# EAGLE library part XC2C{64,128,256}A-VQ100 (library kmod-xilinx)
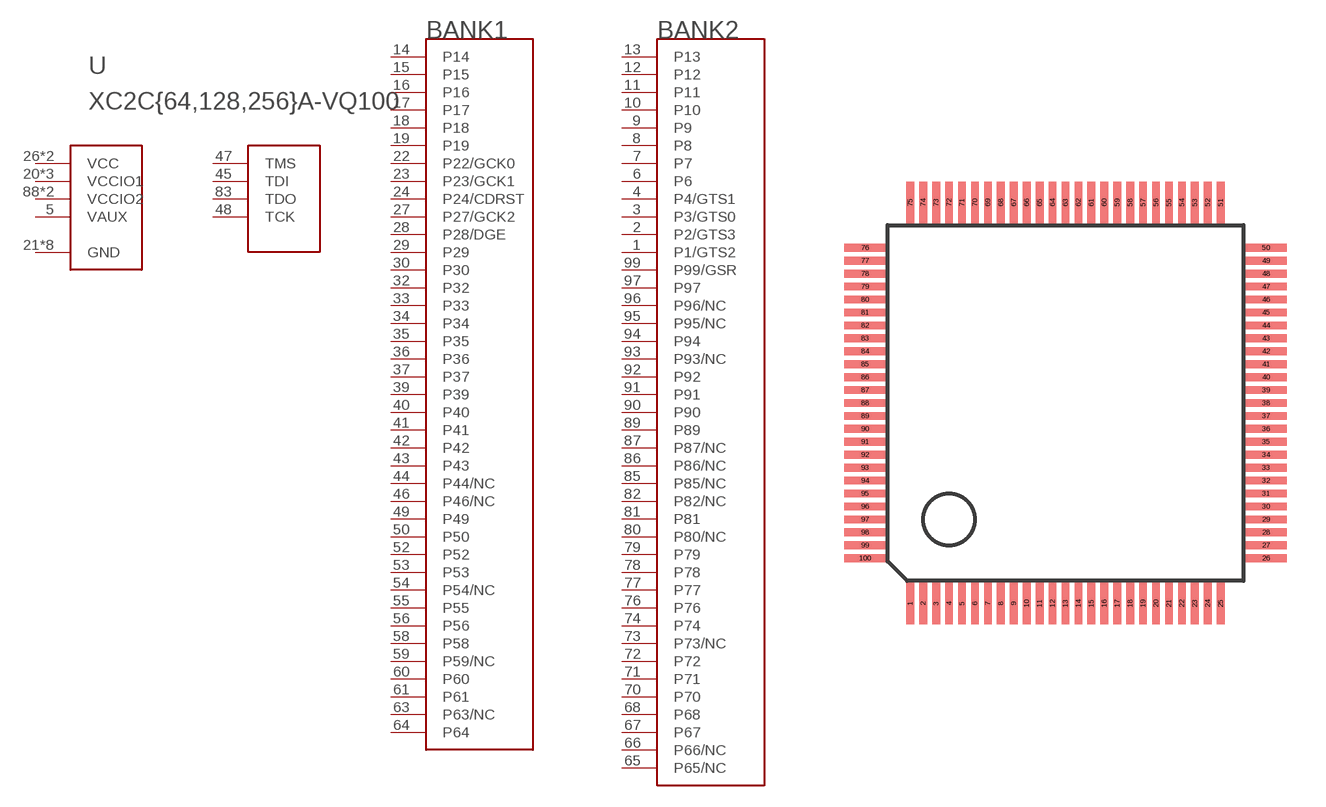
[diagram p3: symbol with the pads of XILINX_VQ100; footprint XILINX_VQ100]

Designator prefix -

## XC2C{64,128,256}A-VQ100  [XILINX_VQ100]
1  P1/GTS2
2  P2/GTS3
3  P3/GTS0
4  P4/GTS1
5  VAUX
6  P6
7  P7
8  P8
9  P9
10  P10
11  P11
12  P12
13  P13
14  P14
15  P15
16  P16
17  P17
18  P18
19  P19
20  VCCIO1
21  GND
22  P22/GCK0
23  P23/GCK1
24  P24/CDRST
25  GND
26  VCC
27  P27/GCK2
28  P28/DGE
29  P29
30  P30
31  GND
32  P32
33  P33
34  P34
35  P35
36  P36
37  P37
38  VCCIO1
39  P39
40  P40
41  P41
42  P42
43  P43
44  P44/NC
45  TDI
46  P46/NC
47  TMS
48  TCK
49  P49
50  P50
51  VCCIO1
52  P52
53  P53
54  P54/NC
55  P55
56  P56
57  VCC
58  P58
59  P59/NC
60  P60
61  P61
62  GND
63  P63/NC
64  P64
65  P65/NC
66  P66/NC
67  P67
68  P68
69  GND
70  P70
71  P71
72  P72
73  P73/NC
74  P74
75  GND
76  P76
77  P77
78  P78
79  P79
80  P80/NC
81  P81
82  P82/NC
83  TDO
84  GND
85  P85/NC
86  P86/NC
87  P87/NC
88  VCCIO2
89  P89
90  P90
91  P91
92  P92
93  P93/NC
94  P94
95  P95/NC
96  P96/NC
97  P97
98  VCCIO2
99  P99/GSR
100  GND

## Footprint XILINX_VQ100 (pad centres in mm)
Xilinx 0.5mm-pitch 100-pin Very Thin QFP Got base footprint from ref-packages; modified according to the Xilinx guide <http://www.xilinx.com/support/documentation/user_guides/ug112.pdf#page=85> (only change was to make pads ever so slightly larger). Untested Seems to be the same thing as the TQ100, except that the TQ is slightly thicker (1.6mm vs 1.2mm).
smd 0.3 x 1.6: 1 -6,-7.75; 2 -5.5,-7.75; 3 -5,-7.75; 4 -4.5,-7.75; 5 -4,-7.75; 6 -3.5,-7.75; 7 -3,-7.75; 8 -2.5,-7.75; 9 -2,-7.75; 10 -1.5,-7.75; 11 -1,-7.75; 12 -0.5,-7.75; 13 0,-7.75; 14 0.5,-7.75; 15 1,-7.75; 16 1.5,-7.75; 17 2,-7.75; 18 2.5,-7.75; 19 3,-7.75; 20 3.5,-7.75; 21 4,-7.75; 22 4.5,-7.75; 23 5,-7.75; 24 5.5,-7.75; 25 6,-7.75; 51 6,7.75; 52 5.5,7.75; 53 5,7.75; 54 4.5,7.75; 55 4,7.75; 56 3.5,7.75; 57 3,7.75; 58 2.5,7.75; 59 2,7.75; 60 1.5,7.75; 61 1,7.75; 62 0.5,7.75; 63 0,7.75; 64 -0.5,7.75; 65 -1,7.75; 66 -1.5,7.75; 67 -2,7.75; 68 -2.5,7.75; 69 -3,7.75; 70 -3.5,7.75; 71 -4,7.75; 72 -4.5,7.75; 73 -5,7.75; 74 -5.5,7.75; 75 -6,7.75
smd 1.6 x 0.3: 26 7.75,-6; 27 7.75,-5.5; 28 7.75,-5; 29 7.75,-4.5; 30 7.75,-4; 31 7.75,-3.5; 32 7.75,-3; 33 7.75,-2.5; 34 7.75,-2; 35 7.75,-1.5; 36 7.75,-1; 37 7.75,-0.5; 38 7.75,0; 39 7.75,0.5; 40 7.75,1; 41 7.75,1.5; 42 7.75,2; 43 7.75,2.5; 44 7.75,3; 45 7.75,3.5; 46 7.75,4; 47 7.75,4.5; 48 7.75,5; 49 7.75,5.5; 50 7.75,6; 76 -7.75,6; 77 -7.75,5.5; 78 -7.75,5; 79 -7.75,4.5; 80 -7.75,4; 81 -7.75,3.5; 82 -7.75,3; 83 -7.75,2.5; 84 -7.75,2; 85 -7.75,1.5; 86 -7.75,1; 87 -7.75,0.5; 88 -7.75,0; 89 -7.75,-0.5; 90 -7.75,-1; 91 -7.75,-1.5; 92 -7.75,-2; 93 -7.75,-2.5; 94 -7.75,-3; 95 -7.75,-3.5; 96 -7.75,-4; 97 -7.75,-4.5; 98 -7.75,-5; 99 -7.75,-5.5; 100 -7.75,-6